# Altium integrated library NSC Power Mgt Switching Circuit.IntLib: 1 symbol
Pins are listed as number, name and electrical type; pins without a type are passive.

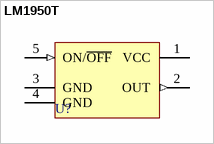
[diagram p0: symbol LM1950T]

## LM1950T
designator U?
750 mA High Side Switch; ComponentAvailability: Obsolete; Published: 15-Apr-2002; DatasheetVersion: Dec-1991; PackageVersion: 2000; PackageReference: T05A; Publisher: Altium Limited; PackageDescription: TO, Thru-Hole, Vertical, Heatsink Mounted; 5 In-Line Leads; Pitch 1.70 mm; Code_JEDEC: TS-001-AA; ComponentLink1Description: Manufacturer Link; ComponentLink1URL: http://www.national.com/; ComponentLink2Description: Discontinuation Notice; ComponentLink2URL: http://www.national.com/obs/obsolescence.txt
footprint T05A (TO, Thru-Hole, Vertical, Heatsink Mounted; 5 In-Line Leads; Pitch 1.70 mm)
pins: 1 VCC (power), 2 OUT (out), 3 GND (power), 4 GND (power), 5 ON/~{OFF} (in)